# Altium schematic symbol library R0603.SchLib: 105 symbols (part 2 of 2)
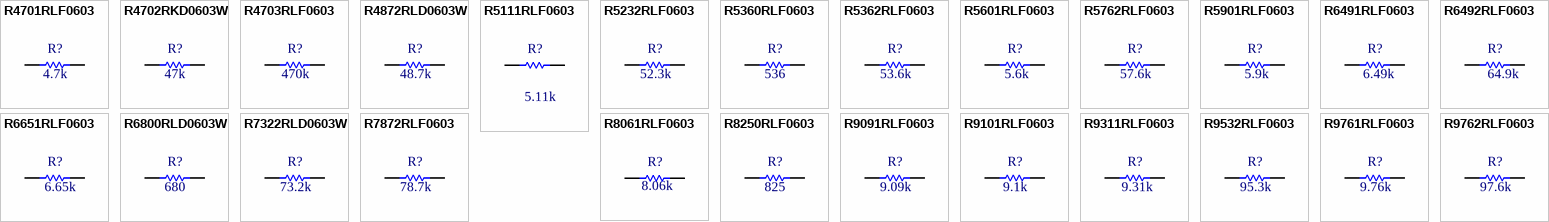
[diagram p3: symbols R4701RLF0603 to R9762RLF0603]

## R4701RLF0603
designator R?  value 4.7k
4.7 kOhms ±1% 0.1W, 1/10W Chip Resistor 0603 (1608 Metric) Automotive AEC-Q200 Thick Film; Manufacturer Part Number: ERJ-3EKF4701V; Manufacturer: Panasonic Electronic Components; Working Temperature: -55°C ~ 155°C; Temperature Coefficient: ±100ppm/°C; Short Description: RES SMD 4.7K OHM 1% 1/10W 0603; Ratings: REACH, ROHS3, AEC-Q200; Frequency: NC; Mounting: SMT; Power: 1/10W; Type: NC; Alternate Part Number 1: *; Alternate Part Number 2: *; Tolerance: ±1%; Current: NC; Revision Date: 02/08/21; Package Reference: 0603; Voltage: NC
footprint R0603 (Footprint not found)
pins: 1, 2

## R4702RKD0603W
designator R?  value 47k
47 kOhms ±0.5% 0.063W, 1/16W Chip Resistor 0603 (1608 Metric) - Thin Film; Manufacturer Part Number: RR0816P-473-D; Manufacturer: Susumu; Working Temperature: -55°C ~ 155°C; Temperature Coefficient: ±25ppm/°C; Short Description: RES SMD 47K OHM 0.5% 1/16W 0603; Ratings: REACH, ROHS3; Frequency: NC; Mounting: SMT; Power: 1/16W; Type: NC; Alternate Part Number 1: *; Alternate Part Number 2: *; Tolerance: ±0.5%; Current: NC; Revision Date: 02/08/21; Package Reference: 0603; Voltage: NC
footprint R0603 (Footprint not found)
pins: 1, 2

## R4703RLF0603
designator R?  value 470k
470 kOhms ±1% 0.1W, 1/10W Chip Resistor 0603 (1608 Metric) Automotive AEC-Q200 Thick Film; Manufacturer Part Number: ERJ-3EKF4703V; Manufacturer: Panasonic Electronic Components; Working Temperature: -55°C ~ 155°C; Temperature Coefficient: ±100ppm/°C; Short Description: RES SMD 470K OHM 1% 1/10W 0603; Ratings: REACH, ROHS3, AEC-Q200; Frequency: NC; Mounting: SMT; Power: 1/10W; Type: NC; Alternate Part Number 1: *; Alternate Part Number 2: *; Tolerance: ±1%; Current: NC; Revision Date: 02/08/21; Package Reference: 0603; Voltage: NC
footprint R0603 (Footprint not found)
pins: 1, 2

## R4872RLD0603W
designator R?  value 48.7k
48.7 kOhms ±0.5% 0.1W, 1/10W Chip Resistor 0603 (1608 Metric) - Thin Film; Manufacturer Part Number: RT0603DRD0748K7L; Manufacturer: Yageo; Working Temperature: -55°C ~ 155°C; Temperature Coefficient: ±25ppm/°C; Short Description: RES SMD 48.7KOHM 0.5% 1/10W 0603; Ratings: REACH, ROHS3; Frequency: NC; Mounting: SMT; Power: 1/10W; Type: NC; Alternate Part Number 1: *; Alternate Part Number 2: *; Tolerance: ±0.5%; Current: NC; Revision Date: 02/08/21; Package Reference: 0603; Voltage: NC
footprint R0603 (Footprint not found)
pins: 1, 2

## R5111RLF0603
designator R?  value 5.11k
5.11 kOhms ±1% 0.1W, 1/10W Chip Resistor 0603 (1608 Metric) Automotive AEC-Q200 Thick Film; Manufacturer Part Number: ERJ-3EKF5111V; Manufacturer: Panasonic Electronic Components; Working Temperature: -55°C ~ 155°C; Temperature Coefficient: ±100ppm/°C; Short Description: RES SMD 5.11K OHM 1% 1/10W 0603; Ratings: REACH, ROHS3, AEC-Q200; Frequency: NC; Mounting: SMT; Power: 1/10W; Type: NC; Alternate Part Number 1: *; Alternate Part Number 2: *; Tolerance: ±1%; Current: NC; Revision Date: 02/08/21; Package Reference: 0603; Voltage: NC
footprint R0603 (Footprint not found)
pins: 1, 2

## R5232RLF0603
designator R?  value 52.3k
52.3 kOhms ±1% 0.1W, 1/10W Chip Resistor 0603 (1608 Metric) Automotive AEC-Q200 Thick Film; Manufacturer Part Number: ERJ-3EKF5232V; Manufacturer: Panasonic Electronic Components; Working Temperature: -55°C ~ 155°C; Temperature Coefficient: ±100ppm/°C; Short Description: RES SMD 52.3K OHM 1% 1/10W 0603; Ratings: REACH, ROHS3, AEC-Q200; Frequency: NC; Mounting: SMT; Power: 1/10W; Type: NC; Alternate Part Number 1: *; Alternate Part Number 2: *; Tolerance: ±1%; Current: NC; Revision Date: 02/08/21; Package Reference: 0603; Voltage: NC
footprint R0603 (Footprint not found)
pins: 1, 2

## R5360RLF0603
designator R?  value 536
536 Ohms ±1% 0.1W, 1/10W Chip Resistor 0603 (1608 Metric) Automotive AEC-Q200 Thick Film; Manufacturer Part Number: ERJ-3EKF5360V; Manufacturer: Panasonic Electronic Components; Working Temperature: -55°C ~ 155°C; Temperature Coefficient: ±100ppm/°C; Short Description: RES SMD 536 OHM 1% 1/10W 0603; Ratings: REACH, ROHS3, AEC-Q200; Frequency: NC; Mounting: SMT; Power: 1/10W; Type: NC; Alternate Part Number 1: *; Alternate Part Number 2: *; Tolerance: ±1%; Current: NC; Revision Date: 02/08/21; Package Reference: 0603; Voltage: NC
footprint R0603 (Footprint not found)
pins: 1, 2

## R5362RLF0603
designator R?  value 53.6k
53.6 kOhms ±1% 0.1W, 1/10W Chip Resistor 0603 (1608 Metric) Automotive AEC-Q200 Thick Film; Manufacturer Part Number: ERJ-3EKF5362V; Manufacturer: Panasonic Electronic Components; Working Temperature: -55°C ~ 155°C; Temperature Coefficient: ±100ppm/°C; Short Description: RES SMD 53.6K OHM 1% 1/10W 0603; Ratings: REACH, ROHS3, AEC-Q200; Frequency: NC; Mounting: SMT; Power: 1/10W; Type: NC; Alternate Part Number 1: *; Alternate Part Number 2: *; Tolerance: ±1%; Current: NC; Revision Date: 02/08/21; Package Reference: 0603; Voltage: NC
footprint R0603 (Footprint not found)
pins: 1, 2

## R5601RLF0603
designator R?  value 5.6k
5.6 kOhms ±1% 0.1W, 1/10W Chip Resistor 0603 (1608 Metric) Automotive AEC-Q200 Thick Film; Manufacturer Part Number: ERJ-3EKF5601V; Manufacturer: Panasonic Electronic Components; Working Temperature: -55°C ~ 155°C; Temperature Coefficient: ±100ppm/°C; Short Description: RES SMD 5.6K OHM 1% 1/10W 0603; Ratings: REACH, ROHS3, AEC-Q200; Frequency: NC; Mounting: SMT; Power: 1/10W; Type: NC; Alternate Part Number 1: *; Alternate Part Number 2: *; Tolerance: ±1%; Current: NC; Revision Date: 02/08/21; Package Reference: 0603; Voltage: NC
footprint R0603 (Footprint not found)
pins: 1, 2

## R5762RLF0603
designator R?  value 57.6k
57.6 kOhms ±1% 0.1W, 1/10W Chip Resistor 0603 (1608 Metric) Automotive AEC-Q200 Thick Film; Manufacturer Part Number: ERJ-3EKF5762V; Manufacturer: Panasonic Electronic Components; Working Temperature: -55°C ~ 155°C; Temperature Coefficient: ±100ppm/°C; Short Description: RES SMD 57.6K OHM 1% 1/10W 0603; Ratings: REACH, ROHS3, AEC-Q200; Frequency: NC; Mounting: SMT; Power: 1/10W; Type: NC; Alternate Part Number 1: *; Alternate Part Number 2: *; Tolerance: ±1%; Current: NC; Revision Date: 02/08/21; Package Reference: 0603; Voltage: NC
footprint R0603 (Footprint not found)
pins: 1, 2

## R5901RLF0603
designator R?  value 5.9k
5.9 kOhms ±1% 0.1W, 1/10W Chip Resistor 0603 (1608 Metric) Automotive AEC-Q200 Thick Film; Manufacturer Part Number: ERJ-3EKF5901V; Manufacturer: Panasonic Electronic Components; Working Temperature: -55°C ~ 155°C; Temperature Coefficient: ±100ppm/°C; Short Description: RES SMD 5.9K OHM 1% 1/10W 0603; Ratings: REACH, ROHS3, AEC-Q200; Frequency: NC; Mounting: SMT; Power: 1/10W; Type: NC; Alternate Part Number 1: *; Alternate Part Number 2: *; Tolerance: ±1%; Current: NC; Revision Date: 02/08/21; Package Reference: 0603; Voltage: NC
footprint R0603 (Footprint not found)
pins: 1, 2

## R6491RLF0603
designator R?  value 6.49k
6.49 kOhms ±1% 0.1W, 1/10W Chip Resistor 0603 (1608 Metric) Automotive AEC-Q200 Thick Film; Manufacturer Part Number: RMCF0603FT6K49; Alternate Part Number 1: AC0603FR-076K49L; Manufacturer: Stackpole Electronics Inc; Working Temperature: -55°C ~ 155°C; Temperature Coefficient: ±100ppm/°C; Short Description: RES 6.49K OHM 1% 1/10W 0603; Ratings: REACH, ROHS3, AEC-Q200; Frequency: NC; Mounting: SMT; Power: 1/10W; Type: NC; Alternate Part Number 2: *; Tolerance: ±1%; Current: NC; Revision Date: 21/10/21; Package Reference: 0603; Voltage: NC
footprint R0603 (Footprint not found)
pins: 1, 2

## R6492RLF0603
designator R?  value 64.9k
64.9 kOhms ±1% 0.1W, 1/10W Chip Resistor 0603 (1608 Metric) Automotive AEC-Q200 Thick Film; Manufacturer Part Number: ERJ-3EKF6492V; Manufacturer: Panasonic Electronic Components; Working Temperature: -55°C ~ 155°C; Temperature Coefficient: ±100ppm/°C; Short Description: RES SMD 64.9K OHM 1% 1/10W 0603; Ratings: REACH, ROHS3, AEC-Q200; Frequency: NC; Mounting: SMT; Power: 1/10W; Type: NC; Alternate Part Number 1: *; Alternate Part Number 2: *; Tolerance: ±1%; Current: NC; Revision Date: 13/10/21; Package Reference: 0603; Voltage: NC
footprint R0603 (Footprint not found)
pins: 1, 2

## R6651RLF0603
designator R?  value 6.65k
6.65k Ohms ±1% 0.1W, 1/10W Chip Resistor 0603 (1608 Metric) Automotive AEC-Q200 Thick Film; Manufacturer Part Number: ERJ-3GEYJ181V; Manufacturer: Panasonic Electronic Components; Working Temperature: -55°C ~ 155°C; Temperature Coefficient: ±100ppm/°C; Short Description: RES 6.65K OHM 1/10W 1% 0603; Ratings: REACH, ROHS3, AEC-Q200; Frequency: NC; Mounting: SMT; Power: 1/10W; Type: NC; Alternate Part Number 1: *; Alternate Part Number 2: *; Tolerance: ±1%; Current: NC; Revision Date: 02/08/21; Package Reference: 0603; Voltage: NC
footprint R0603 (Footprint not found)
pins: 1, 2

## R6800RLD0603W
designator R?  value 680
680 Ohms ±0.5% 0.1W, 1/10W Chip Resistor 0603 (1608 Metric) - Thin Film; Manufacturer Part Number: RT0603DRD07680RL; Manufacturer: Yageo; Working Temperature: -55°C ~ 155°C; Temperature Coefficient: ±25ppm/°C; Short Description: RES SMD 680 OHM 0.5% 1/10W 0603; Ratings: REACH, ROHS3; Frequency: NC; Mounting: SMT; Power: 1/10W; Type: NC; Alternate Part Number 1: *; Alternate Part Number 2: *; Tolerance: ±0.5%; Current: NC; Revision Date: 02/08/21; Package Reference: 0603; Voltage: NC
footprint R0603 (Footprint not found)
pins: 1, 2

## R7322RLD0603W
designator R?  value 73.2k
73.2 kOhms ±0.5% 0.1W, 1/10W Chip Resistor 0603 (1608 Metric) - Thin Film; Manufacturer Part Number: RT0603DRD0773K2L; Manufacturer: Yageo; Working Temperature: -55°C ~ 155°C; Temperature Coefficient: ±25ppm/°C; Short Description: RES SMD 73.2KOHM 0.5% 1/10W 0603; Ratings: REACH, ROHS3; Frequency: NC; Mounting: SMT; Power: 1/10W; Type: NC; Alternate Part Number 1: *; Alternate Part Number 2: *; Tolerance: ±0.5%; Current: NC; Revision Date: 02/08/21; Package Reference: 0603; Voltage: NC
footprint R0603 (Footprint not found)
pins: 1, 2

## R7872RLF0603
designator R?  value 78.7k
78.7 kOhms ±1% 0.1W, 1/10W Chip Resistor 0603 (1608 Metric) Automotive AEC-Q200 Thick Film; Manufacturer Part Number: ERJ-3EKF7872V; Manufacturer: Panasonic Electronic Components; Working Temperature: -55°C ~ 155°C; Temperature Coefficient: ±100ppm/°C; Short Description: RES SMD 78.7K OHM 1% 1/10W 0603; Ratings: REACH, ROHS3, AEC-Q200; Frequency: NC; Mounting: SMT; Power: 1/10W; Type: NC; Alternate Part Number 1: *; Alternate Part Number 2: *; Tolerance: ±1%; Current: NC; Revision Date: 02/08/21; Package Reference: 0603; Voltage: NC
footprint R0603 (Footprint not found)
pins: 1, 2

## R8061RLF0603
designator R?  value 8.06k
8.06 kOhms ±1% 0.1W, 1/10W Chip Resistor 0603 (1608 Metric) Automotive AEC-Q200 Thick Film; Manufacturer Part Number: ERJ-3EKF8061V; Manufacturer: Panasonic Electronic Components; Working Temperature: -55°C ~ 155°C; Temperature Coefficient: ±100ppm/°C; Short Description: RES SMD 8.06K OHM 1% 1/10W 0603; Ratings: REACH, ROHS3, AEC-Q200; Frequency: NC; Mounting: SMT; Power: 1/10W; Type: NC; Alternate Part Number 1: *; Alternate Part Number 2: *; Tolerance: ±1%; Current: NC; Revision Date: 02/08/21; Package Reference: 0603; Voltage: NC
footprint R0603 (Footprint not found)
pins: 1, 2

## R8250RLF0603
designator R?  value 825
825 Ohms ±1% 0.1W, 1/10W Chip Resistor 0603 (1608 Metric) Automotive AEC-Q200 Thick Film; Manufacturer Part Number: ERJ-3EKF8250V; Manufacturer: Panasonic Electronic Components; Working Temperature: -55°C ~ 155°C; Temperature Coefficient: ±100ppm/°C; Short Description: RES SMD 825 OHM 1% 1/10W 0603; Ratings: REACH, ROHS3, AEC-Q200; Frequency: NC; Mounting: SMT; Power: 1/10W; Type: NC; Alternate Part Number 1: *; Alternate Part Number 2: *; Tolerance: ±1%; Current: NC; Revision Date: 02/08/21; Package Reference: 0603; Voltage: NC
footprint R0603 (Footprint not found)
pins: 1, 2

## R9091RLF0603
designator R?  value 9.09k
9.09 kOhms ±1% 0.1W, 1/10W Chip Resistor 0603 (1608 Metric) Automotive AEC-Q200 Thick Film; Manufacturer Part Number: ERJ-3EKF9091V; Manufacturer: Panasonic Electronic Components; Working Temperature: -55°C ~ 155°C; Temperature Coefficient: ±100ppm/°C; Short Description: RES SMD 9.09K OHM 1% 1/10W 0603; Ratings: REACH, ROHS3, AEC-Q200; Frequency: NC; Mounting: SMT; Power: 1/10W; Type: NC; Alternate Part Number 1: *; Alternate Part Number 2: *; Tolerance: ±1%; Current: NC; Revision Date: 02/08/21; Package Reference: 0603; Voltage: NC
footprint R0603 (Footprint not found)
pins: 1, 2

## R9101RLF0603
designator R?  value 9.1k
9.1 kOhms ±1% 0.1W, 1/10W Chip Resistor 0603 (1608 Metric) Automotive AEC-Q200 Thick Film; Manufacturer Part Number: ERJ-3EKF9101V; Manufacturer: Panasonic Electronic Components; Working Temperature: -55°C ~ 155°C; Temperature Coefficient: ±100ppm/°C; Short Description: RES SMD 9.1K OHM 1% 1/10W 0603; Ratings: REACH, ROHS3, AEC-Q200; Frequency: NC; Mounting: SMT; Power: 1/10W; Type: NC; Alternate Part Number 1: *; Alternate Part Number 2: *; Tolerance: ±1%; Current: NC; Revision Date: 02/08/21; Package Reference: 0603; Voltage: NC
footprint R0603 (Footprint not found)
pins: 1, 2

## R9311RLF0603
designator R?  value 9.31k
9.31 kOhms ±1% 0.1W, 1/10W Chip Resistor 0603 (1608 Metric) Automotive AEC-Q200 Thick Film; Manufacturer Part Number: ERJ-3EKF9311V; Manufacturer: Panasonic Electronic Components; Working Temperature: -55°C ~ 155°C; Temperature Coefficient: ±100ppm/°C; Short Description: RES SMD 9.31K OHM 1% 1/10W 0603; Ratings: REACH, ROHS3, AEC-Q200; Frequency: NC; Mounting: SMT; Power: 1/10W; Type: NC; Alternate Part Number 1: *; Alternate Part Number 2: *; Tolerance: ±1%; Current: NC; Revision Date: 02/08/21; Package Reference: 0603; Voltage: NC
footprint R0603 (Footprint not found)
pins: 1, 2

## R9532RLF0603
designator R?  value 95.3k
95.3 kOhms ±1% 0.1W, 1/10W Chip Resistor 0603 (1608 Metric) Automotive AEC-Q200 Thick Film; Manufacturer Part Number: ERJ-3EKF9532V; Manufacturer: Panasonic Electronic Components; Working Temperature: -55°C ~ 155°C; Temperature Coefficient: ±100ppm/°C; Short Description: RES SMD 95.3K OHM 1% 1/10W 0603; Ratings: REACH, ROHS3, AEC-Q200; Frequency: NC; Mounting: SMT; Power: 1/10W; Type: NC; Alternate Part Number 1: *; Alternate Part Number 2: *; Tolerance: ±1%; Current: NC; Revision Date: 02/08/21; Package Reference: 0603; Voltage: NC
footprint R0603 (Footprint not found)
pins: 1, 2

## R9761RLF0603
designator R?  value 9.76k
9.76 kOhms ±1% 0.1W, 1/10W Chip Resistor 0603 (1608 Metric) Automotive AEC-Q200 Thick Film; Manufacturer Part Number: ERJ-3EKF9761V; Manufacturer: Panasonic Electronic Components; Working Temperature: -55°C ~ 155°C; Temperature Coefficient: ±100ppm/°C; Short Description: RES SMD 9.76K OHM 1% 1/10W 0603; Ratings: REACH, ROHS3, AEC-Q200; Frequency: NC; Mounting: SMT; Power: 1/10W; Type: NC; Alternate Part Number 1: *; Alternate Part Number 2: *; Tolerance: ±1%; Current: NC; Revision Date: 02/08/21; Package Reference: 0603; Voltage: NC
footprint R0603 (Footprint not found)
pins: 1, 2

## R9762RLF0603
designator R?  value 97.6k
97.6 kOhms ±1% 0.1W, 1/10W Chip Resistor 0603 (1608 Metric) Automotive AEC-Q200 Thick Film; Manufacturer Part Number: ERJ-3EKF9762V; Manufacturer: Panasonic Electronic Components; Working Temperature: -55°C ~ 155°C; Temperature Coefficient: ±100ppm/°C; Short Description: RES SMD 97.6K OHM 1% 1/10W 0603; Ratings: REACH, ROHS3, AEC-Q200; Frequency: NC; Mounting: SMT; Power: 1/10W; Type: NC; Alternate Part Number 1: *; Alternate Part Number 2: *; Tolerance: ±1%; Current: NC; Revision Date: 02/08/21; Package Reference: 0603; Voltage: NC
footprint R0603 (Footprint not found)
pins: 1, 2